# Altium footprint library Tactical_LED_Light.PcbLib: 6 footprints
Each footprint in its own frame and in the unit in brackets; x right, y up, seen from the top. Pads: shape width x height; smd on the part's side, far side on the other; paste and mask are expansions set on the pad; w line width, h text height; cw(c..) or ccw(c..) is an arc to the next point about the centre after c.
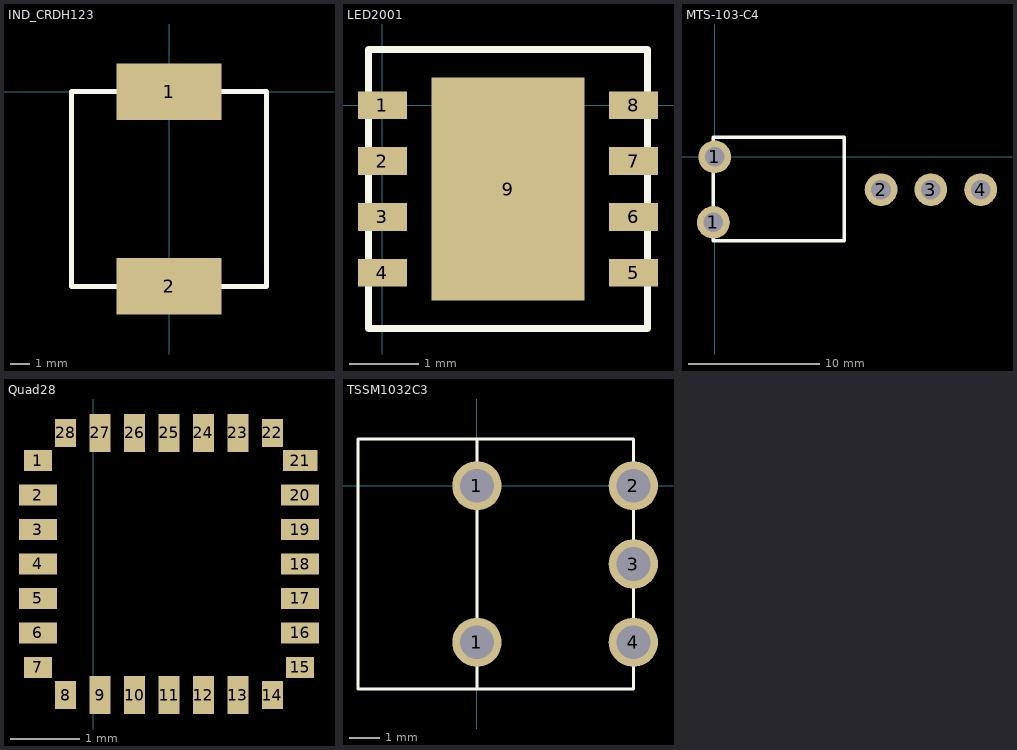
[diagram p0: the footprints below, top view; thin cyan lines are the x and y axes]

## IND_CRDH123 [mm] "CDRH125"
height 6
pads (2):
  rect 5.4x2.9 smd: 1(0,0) 2(0,-10)
Top Overlay:
  lines w0.254: -5,-10 -5,0 5,0 5,-10 -5,-10

## LED2001 [mm] "Led Driver"
height 2
pads (9):
  rect 0.7x0.4 smd: 1(0,0) 2(0,-0.8) 3(0,-1.6) 4(0,-2.4) 5(3.6,-2.4) 6(3.6,-1.6) 7(3.6,-0.8) 8(3.6,0)
  rect 2.2x3.2 smd: 9(1.8,-1.2)
Top Overlay:
  lines w0.1: -0.2,-3.2 3.8,-3.2 3.8,0.8 -0.2,0.8 -0.2,-3.2

## MTS-103-С4 [mm] "3 Pos Switch"
height 13.2
pads (5):
  round 2.5 hole 1.5: 1(-0.1,-5) 1(0,0) 2(12.7,-2.5) 3(16.5,-2.5) 4(20.3,-2.5)
Top Overlay:
  lines w0.254: 9.9,-6.4 -0.1,-6.4 -0.1,1.5 9.9,1.5 9.9,-6.3

## PCBComponent_1 [mm]

## Quad28 [mm]
pads (28):
  rect 0.4x0.3 smd: 1(-0.8,4.5) 7(-0.8,1.5) 15(3,1.5)
  rect 0.55x0.3 smd: 2(-0.8,4) 3(-0.8,3.5) 4(-0.8,3) 5(-0.8,2.5) 6(-0.8,2) 16(3,2) 17(3,2.5) 18(3,3) 19(3,3.5) 20(3,4)
  rect 0.3x0.4 smd: 8(-0.4,1.1) 14(2.6,1.1) 22(2.6,4.9) 28(-0.4,4.9)
  rect 0.3x0.55 smd: 9(0.1,1.1) 10(0.6,1.1) 11(1.1,1.1) 12(1.6,1.1) 13(2.1,1.1) 23(2.1,4.9) 24(1.6,4.9) 25(1.1,4.9) 26(0.6,4.9) 27(0.1,4.9)
  rect 0.5x0.3 smd: 21(3,4.5)

## TSSM1032C3 [mm] "3 pos switch horizontal ON-OFF-ON"
height 5.2
pads (5):
  round 1.6 hole 1.1: 1(0,-5.08) 1(0,0) 2(5.08,0) 3(5.08,-2.54) 4(5.08,-5.08)
Top Overlay:
  lines w0.1: 0,-6.604 -3.86,-6.604 -3.86,1.524 0,1.524 ; 0,-6.604 0,1.524 ; 0,-6.604 5.08,-6.604 5.08,1.524 0,1.524